# EAGLE library part EG1271 (library EG1271_switch)
Check availability <https://pricing.snapeda.com/parts/EG1271/E-Switch/view-part?ref=eda>
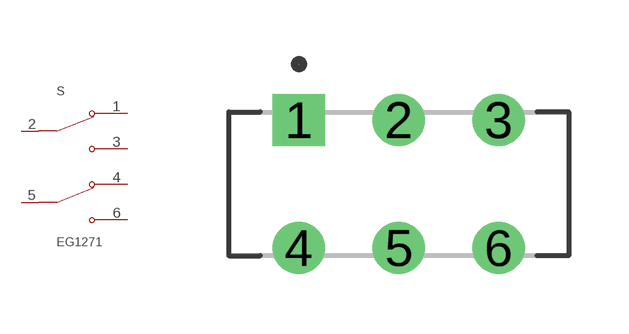
[diagram p0: symbol with the pads of SW_EG1271; footprint SW_EG1271]

Designator prefix S

## EG1271 (Availability: In Stock; Check_prices: https://www.snapeda.com/parts/EG1271/E-Switch/view-part/?ref=eda; Description: Slide Switch SPDT Through Hole; MF: E-Switch; MP: EG1271; Package: None; Price: None; SnapEDA_Link: https://www.snapeda.com/parts/EG1271/E-Switch/view-part/?ref=snap)  [SW_EG1271]
1  NC1  pas
2  COM1  pas
3  NO1  pas
4  NC2  pas
5  COM2  pas
6  NO2  pas

## Footprint SW_EG1271 (pad centres in mm)
drill 0.8 square: 1 -2.5,1.6
drill 0.8: 2 0,1.6; 3 2.5,1.6; 4 -2.5,-1.6; 5 0,-1.6; 6 2.5,-1.6